# EAGLE library part PIC16F6XX (library PIC16F6XX)
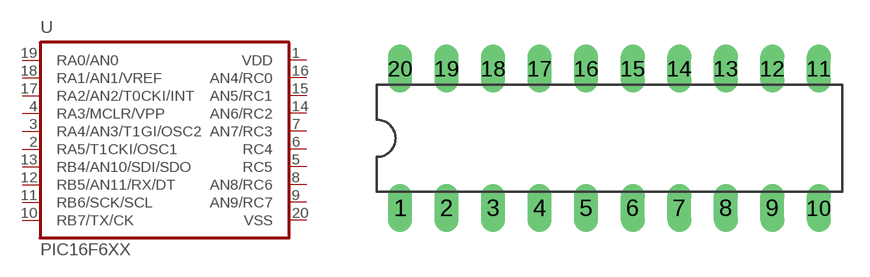
[diagram p0: symbol with the pads of DIL20; footprint DIL20]

Designator prefix U

## PIC16F6XX  [DIL20]
1  VDD  pwr
2  RA5/T1CKI/OSC1
3  RA4/AN3/T1GI/OSC2
4  RA3/MCLR/VPP  in
5  RC5
6  RC4
7  AN7/RC3
8  AN8/RC6
9  AN9/RC7
10  RB7/TX/CK
11  RB6/SCK/SCL
12  RB5/AN11/RX/DT
13  RB4/AN10/SDI/SDO
14  AN6/RC2
15  AN5/RC1
16  AN4/RC0
17  RA2/AN2/T0CKI/INT
18  RA1/AN1/VREF
19  RA0/AN0
20  VSS  pwr

## Footprint DIL20 (pad centres in mm)
drill 0.813 long: 1 -11.43,-3.81; 2 -8.89,-3.81; 3 -6.35,-3.81; 4 -3.81,-3.81; 5 -1.27,-3.81; 6 1.27,-3.81; 7 3.81,-3.81; 8 6.35,-3.81; 9 8.89,-3.81; 10 11.43,-3.81; 11 11.43,3.81; 12 8.89,3.81; 13 6.35,3.81; 14 3.81,3.81; 15 1.27,3.81; 16 -1.27,3.81; 17 -3.81,3.81; 18 -6.35,3.81; 19 -8.89,3.81; 20 -11.43,3.81